# Altium integrated library TempRatorLm35_7Segmaent.IntLib: 14 symbols
Pins are listed as number, name and electrical type; pins without a type are passive.

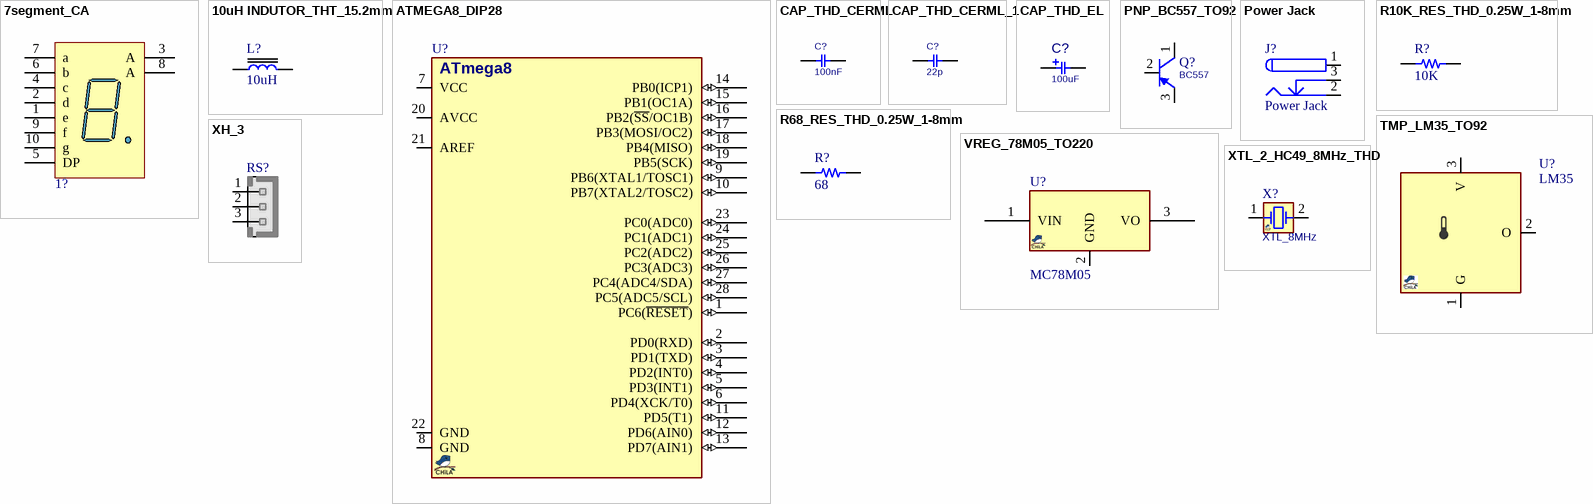
[diagram p0: symbols 7segment_CA to XTL_2_HC49_8MHz_THD]

## 7segment_CA
designator 1?  (value not drawn)
LatestRevisionDate: 17-Jul-2002; LatestRevisionNote: Re-released for DXP Platform.; Publisher: Altium Limited
footprint 7segment_CA
pins: 1 e "Cathode", 2 d "Cathode", 3 A "Common Anode", 4 c "Cathode", 5 DP "Cathode", 6 b "Cathode", 7 a "Cathode", 8 A "Common Anode", 9 f "Cathode", 10 g "Cathode"

## 10uH INDUTOR_THT_15.2mm
designator L?  value 10uH  (hidden comment: 10uH INDUTOR_THT_15.2mm)
10uH INDUTOR THT LENGTH 15.2mm; Type: 10%; Package: THT
footprint 10uH INDUTOR_THT_15.2mm (10uH INDUTOR THT LENGTH 15.2mm)
pins: 1, 2

## ATMEGA8_DIP28
designator U?, comment ATMEGA8  (value not drawn)
MCU, AVR, 8-Bit, 8KB, 1KB RAM, 16MHz; PART#ALT: ATmega8-48-88-168-328; MANF_P#: ATMEGA8-16PU; DESC: 512B EEPROM; MANF: ATMEL/MICROCHIP; PARAM2: 4.5~5.5V; PARAM: 8KB, 1KB RAM, 16MHz, -40~85°C; PRICE: 2.5$; VALUE: ATMEGA8
footprint DIP_28 (DIP, pitch 2.54mm, 300mil Width)
pins: 1 PC6(~{RESET}) (io), 2 PD0(RXD) (io), 3 PD1(TXD) (io), 4 PD2(INT0) (io), 5 PD3(INT1) (io), 6 PD4(XCK/T0) (io), 7 VCC (power), 8 GND (power), 9 PB6(XTAL1/TOSC1) (io), 10 PB7(XTAL2/TOSC2) (io), 11 PD5(T1) (io), 12 PD6(AIN0) (io), 13 PD7(AIN1) (io), 14 PB0(ICP1) (io), 15 PB1(OC1A) (io), 16 PB2(~{SS}/OC1B) (io), 17 PB3(MOSI/OC2) (io), 18 PB4(MISO) (io), 19 PB5(SCK) (io), 20 AVCC (power), 21 AREF, 22 GND (power), 23 PC0(ADC0) (io), 24 PC1(ADC1) (io), 25 PC2(ADC2) (io), 26 PC3(ADC3) (io), 27 PC4(ADC4/SDA) (io), 28 PC5(ADC5/SCL) (io)
text: ATmega8

## CAP_THD_CERML
designator C?, comment 100nF
CAP, THD, CER MULTI LAYER,; PARAM: 50V; DESC: CAP, CER MULTI LAYER,; MANF_P#: MANF_PART#; PRICE: 100= 1$; MANF: MANF; PARAM2: PARAM2; ASSEMBLY: ASSEMBLY; VALUE: 100nF
footprint C_CER_D3 (CAP, CER MULTILAYER, D:3.5mm, pitch: 2.54mm)
footprint C_CER_D5 (CAP, CER, D:5mm, pitch: 2.5mm)
footprint C_CER_D6A (CAP, CER MULTILAYER, 5.8X1.7mm, pitch: 2.5mm)
footprint C_CER_D6B (CAP, CER MULTILAYER, 6X2mm, pitch: 5mm)
footprint C_CER_D7A (CAP, CER MULTILAYER, 7.0X1.7mm, pitch: 5.0mm)
footprint C_CER_D7B (CAP, CER MULTILAYER, 7.0X2.6mm, pitch: 5.0mm)
footprint C_CER_D10 (CAP, CER MULTILAYER, 12X4mm, pitch: 7.5mm)
footprint C_CER_D12 (CAP, CER MULTILAYER, 12X4mm, pitch: 7.5mm)
footprint C_CER_M4 (CAP, CER MULTILAYER, 4.2X2.0mm, pitch: 5.0mm, TDK FK24)
footprint C_CER_M5 (CAP, CER MULTILAYER, 5.0X2.5mm, pitch: 2.5mm, RAD0.1)
pins: 1, 2

## CAP_THD_CERML_1
designator C?, comment 22p
CAP, THD, CER MULTI LAYER,; PARAM: 50V; DESC: CAP, CER MULTI LAYER,; MANF_P#: MANF_PART#; PRICE: 100= 1$; MANF: MANF; PARAM2: PARAM2; ASSEMBLY: ASSEMBLY; VALUE: 22p
footprint C_CER_D3 (CAP, CER MULTILAYER, D:3.5mm, pitch: 2.54mm)
footprint C_CER_D5 (CAP, CER, D:5mm, pitch: 2.5mm)
footprint C_CER_D6A (CAP, CER MULTILAYER, 5.8X1.7mm, pitch: 2.5mm)
footprint C_CER_D6B (CAP, CER MULTILAYER, 6X2mm, pitch: 5mm)
footprint C_CER_D7A (CAP, CER MULTILAYER, 7.0X1.7mm, pitch: 5.0mm)
footprint C_CER_D7B (CAP, CER MULTILAYER, 7.0X2.6mm, pitch: 5.0mm)
footprint C_CER_D10 (CAP, CER MULTILAYER, 12X4mm, pitch: 7.5mm)
footprint C_CER_D12 (CAP, CER MULTILAYER, 12X4mm, pitch: 7.5mm)
footprint C_CER_M4 (CAP, CER MULTILAYER, 4.2X2.0mm, pitch: 5.0mm, TDK FK24)
footprint C_CER_M5 (CAP, CER MULTILAYER, 5.0X2.5mm, pitch: 2.5mm, RAD0.1)
pins: 1, 2

## CAP_THD_EL
designator C?, comment 100uF
CAP, THD, ELEC,; MANF_P#: MANF_PART#; PARAM2: 20%; DESC: DESCRIPTION; DIST#: MOUSER; PARAM: 25V; PRICE: 10= 5$; MANF: MANF; ASSEMBLY: ASSEMBLY; VALUE: 100uF
footprint C_EL_8X12 (Cap Elec, D8.0X12.0H pitch: 3.5mm, RB.14/.26, RB.15/.32)
footprint C_EL_4X7 (Cap Elec, D4.0X7.0H pitch: 1.5mm)
footprint C_EL_5X7 (Cap Elec, D5.0X7.0H pitch: 2mm)
footprint C_EL_5X11 (Cap Elec, D5.0X11.0H pitch: 2mm)
footprint C_EL_6X11 (Cap Elec, D6.3X11.0H pitch: 2.5mm)
footprint C_EL_8X12 (Cap Elec, D8.0X12.0H pitch: 3.5mm, RB.14/.26, RB.15/.32)
footprint C_EL_8X12R (Cap Elec, D8.0X12.0H pitch: 3.5mm, RIGHT ANGLE)
footprint C_EL_10X20 (Cap Elec, D10.0X20.0H pitch: 5.0mm, RB.2/.4)
footprint C_EL_12X25 (Cap Elec, D12.0X25.0H pitch: 5.0mm, RB.2/.5)
footprint C_EL_16X25 (Cap Elec, D16.0X25.0H pitch: 7.6mm, RB.3/.6)
footprint C_EL_18X35 (Cap Elec, D18.0X35.0H pitch: 7.6mm, RB.3/.7)
footprint C_EL_20X35 (Cap Elec, D20.0X35.0H pitch: 10.0mm, RB.4/.8)
footprint C_EL_25X40 (Cap Elec, D25.0X40.0H pitch: 12.8mm, RB.5/1)
footprint C_EL_30X50 (Cap Elec, D30.0X50.0H pitch: 10.0mm)
footprint C_EL_35X30 (Cap Elec, D35.0X30.0H pitch: 10.0mm, 470uF/400V, RB.44/1.3)
footprint C_EL_10X12 (Footprint not found)
footprint C_EL_6X12_R (Footprint not found)
pins: 1, 2

## PNP_BC557_TO92
designator Q?, comment BC557
BJT, PNP, 45v, 0.1A, THD, TO92; PARAM2: 500mW; MANF: MULTICOMP; PARAM: 45v, 0.1A; MANF_P#: BC557; VALUE: BC557
footprint TO92_3 (TO-92)
simulation model NS3904
pins: 1 C, 2 B, 3 E

## Power Jack
designator J?
footprint Power Jack
pins: 1 (power), 2 (power), 3 (power)

## R10K_RES_THD_0.25W_1-8mm
designator R?  value 10K  (hidden comment: R10K_RES_THD_0.25W_1-8mm)
RESISTOR_10KOhm_THD_0.25W-8mm; Pacakge: THT; Rating: 0.25W; Type: 5%
footprint R10K_RES_THD_AX14_0.25W (RESISTOR 10K Ohm  THD AX14 0.25W Length  8mm)
pins: 1, 2

## R68_RES_THD_0.25W_1-8mm
designator R?  value 68  (hidden comment: R68_RES_THD_0.25W_1-8mm)
RESISTOR_68Ohm_THD_0.25W-8mm; Pacakge: THT; Rating: 0.25W; Type: 5%; Parameter 1: *
footprint R68_RES_THD_AX14_0.25W (RESISTOR 68 Ohm  THD AX14 0.25W Length  8mm)
pins: 1, 2

## TMP_LM35_TO92
designator U?, comment LM35
SENSOR, TEMP, ANALOG, -55~150oC, 4~20Vcc, Out 0mV + 10mV/oC; MANF_P#: LM35CZ, LM35CAZ or LM35DZ; MANF: TI; PARAM: 0.5°C Accuracy, 10mV/oC, -55~150oC; PARAM2: 4~20Vcc; PRICE: 7$; VALUE: LM35
footprint TO92_3 (TO-92)
pins: 1 G, 2 O, 3 V

## VREG_78M05_TO220
designator U?, comment MC78M05
REG, Linear, Fixed, 5v, 1.5A, TO-220; MANF_P#: LM78M05CT, LM7805CT, LM7805ACT, UA7805CKC, L7805ABV, L7805ACV, L7805CV, L78M05CV, KA78T05, KA7805ETU, MC78M05BT, MC78M05CT, MC7805ACT, MC7805ABT, NCP7805TG, NJM7805FA, TS7805CZ; MANF: TI, ST, FAIRCHILD, ON, NJR, TS; PARAM: 5v, 1.5A; PARAM2: PARAM2; VALUE: MC78M05
footprint TO220_3 (TO-220 3 LEAD, TO-262, pitch: 2.54mm  10x4.5mm)
pins: 1 VIN, 2 GND, 3 VO

## XH_3
designator RS?, comment HHDR_3  (value not drawn)
JST-XH pitch: 2.5mm; VALUE: HHDR_3
footprint XH_3 (PW10-xx-M, JST-BxB-XH-A pitch: 2.5mm)
signal-integrity model Connector
pins: 1, 2, 3

## XTL_2_HC49_8MHz_THD
designator X?, comment XTL_8MHz
Crystal MOST POPULAR ABL HC49 PACKAGE; MANF: ABRACON; MANF_P#: ABLS-8.000MHZ-B4-T; PARAM: 8MHz, 18pF, 30PPM, -20~70oC; PRICE: 0.3$; VALUE: XTL_8MHz
footprint XTLT_2 (Crystal PTH HC49S)
pins: 1 OSC1, 2 OSC2